# Altium footprint library QUTMS_LEDLibrary.PcbLib: 6 footprints
Each footprint in its own frame and in the unit in brackets; x right, y up, seen from the top. Pads: shape width x height; smd on the part's side, far side on the other; paste and mask are expansions set on the pad; w line width, h text height; cw(c..) or ccw(c..) is an arc to the next point about the centre after c.
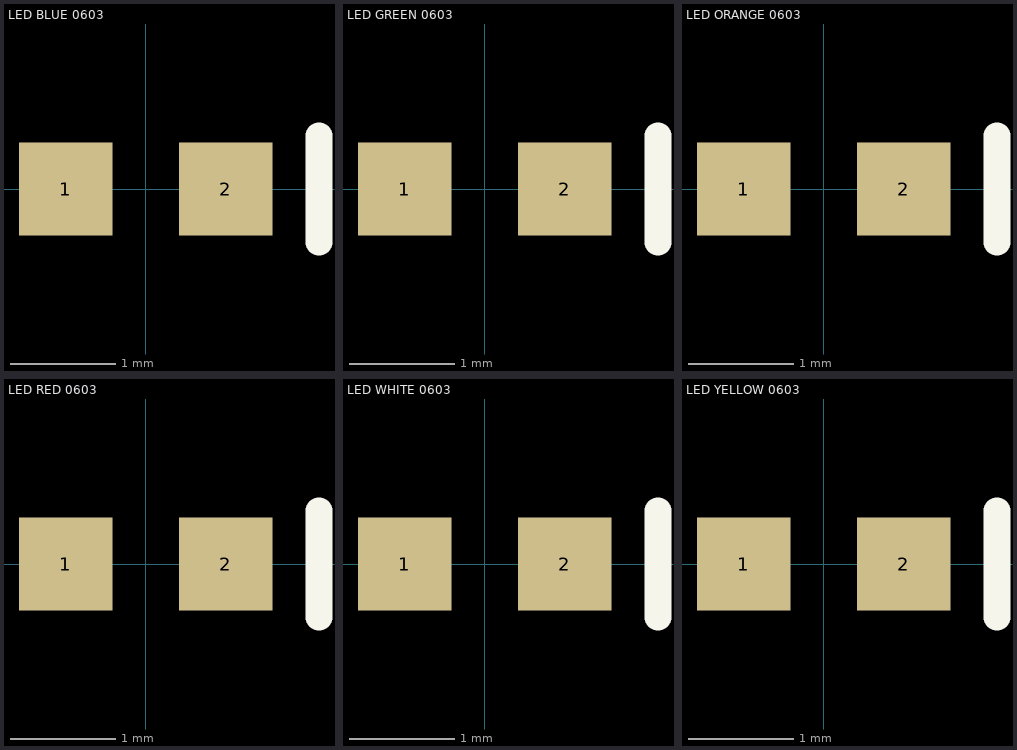
[diagram p0: the footprints below, top view; thin cyan lines are the x and y axes]

## LED BLUE 0603 [mil]
pads (2):
  rect 35x35 smd: 1(-30,0) 2(30,0)
Top Overlay:
  lines w10: 65,-20 65,20
3D body: height 7, standoff 0, extent -40,-20 40,20
3D body: height 30, standoff 1, extent -30,-17.5 30,17.5

## LED GREEN 0603 [mil]
pads (2):
  rect 35x35 smd: 1(-30,0) 2(30,0)
Top Overlay:
  lines w10: 65,-20 65,20
3D body: height 30, standoff 1, extent -30,-17.5 30,17.5
3D body: height 7, standoff 0, extent -40,-20 40,20

## LED ORANGE 0603 [mil]
pads (2):
  rect 35x35 smd: 1(-30,0) 2(30,0)
Top Overlay:
  lines w10: 65,-20 65,20
3D body: height 30, standoff 1, extent -30,-17.5 30,17.5
3D body: height 7, standoff 0, extent -40,-20 40,20

## LED RED 0603 [mil]
pads (2):
  rect 35x35 smd: 1(-30,0) 2(30,0)
Top Overlay:
  lines w10: 65,-20 65,20
3D body: height 7, standoff 0, extent -40,-20 40,20
3D body: height 30, standoff 1, extent -30,-17.5 30,17.5

## LED WHITE 0603 [mil]
pads (2):
  rect 35x35 smd: 1(-30,0) 2(30,0)
Top Overlay:
  lines w10: 65,-20 65,20
3D body: height 7, standoff 0, extent -40,-20 40,20
3D body: height 30, standoff 1, extent -30,-17.5 30,17.5

## LED YELLOW 0603 [mil]
pads (2):
  rect 35x35 smd: 1(-30,0) 2(30,0)
Top Overlay:
  lines w10: 65,-20 65,20
3D body: height 7, standoff 0, extent -40,-20 40,20
3D body: height 30, standoff 1, extent -30,-17.5 30,17.5